# Altium schematic symbol library LEAKCAM.SCHLIB: 63 symbols
Pins are listed as number, name and electrical type; pins without a type are passive.

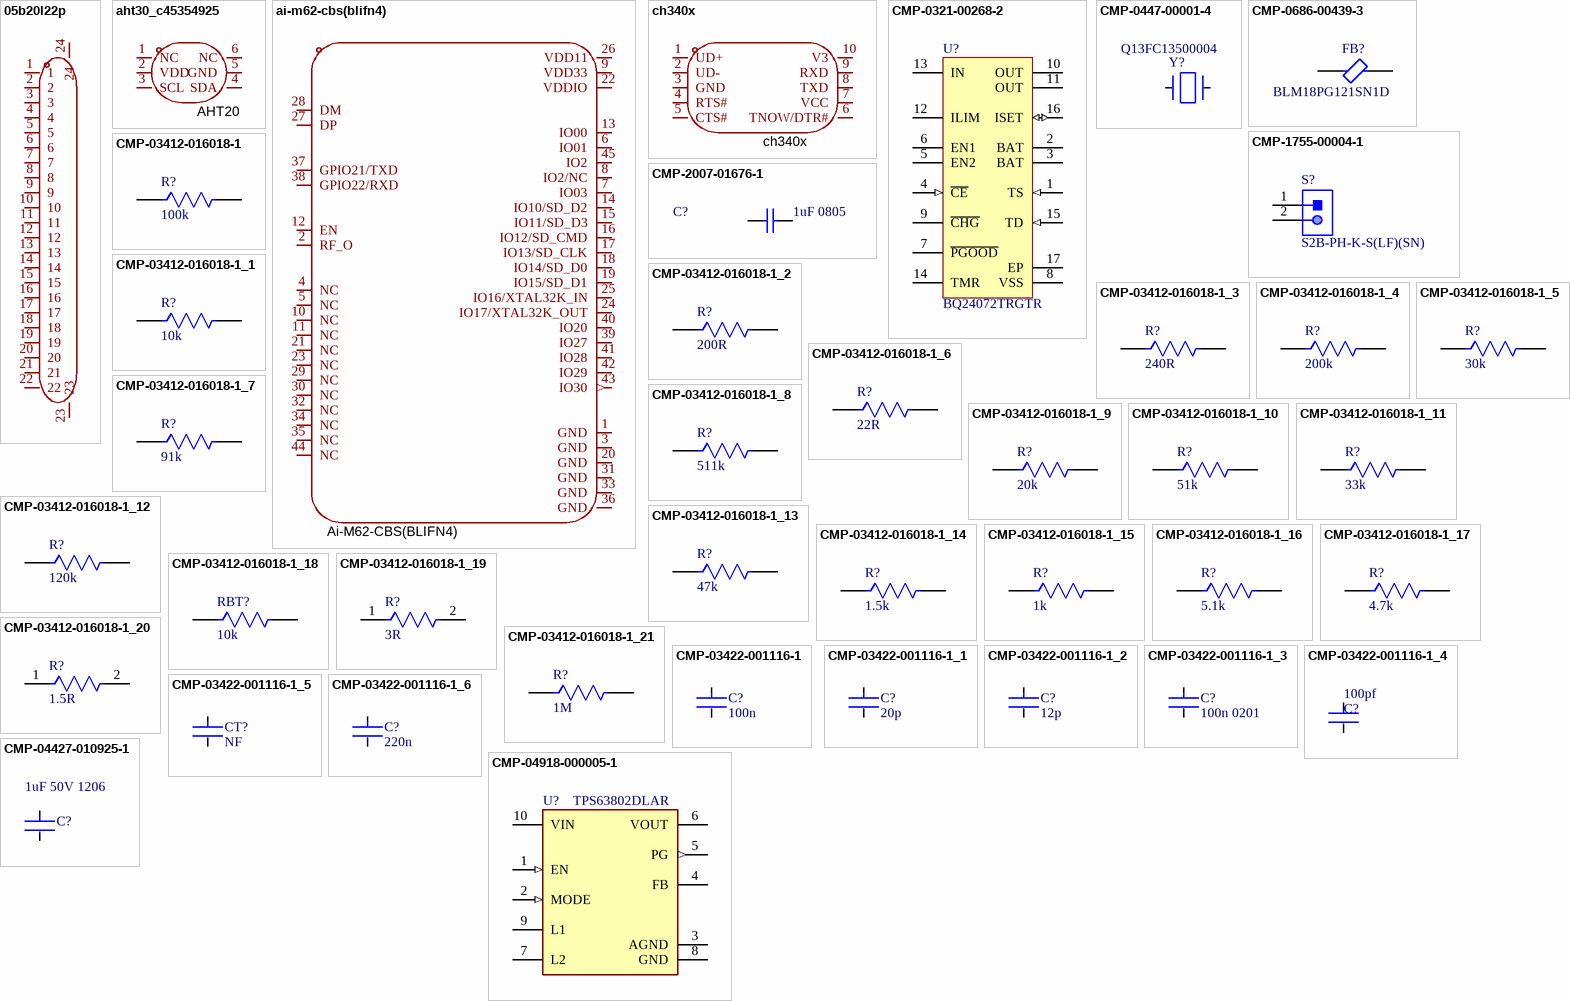
[diagram p0: symbols 05b20l22p to CMP-04918-000005-1]

## 05b20l22p
designator J?  (value not drawn)
C22459552; Manufacturer: HanElectricity(瀚源); AddInBom: yes; Locking Feature: Slide Lock; Number of Contacts: 22P; Pitch: 0.5mm; FFC, FCB Thickness: 0.3mm; Rated Voltage (Max): 50V; Current Rating (Max): 400mA; LCSC Part Name: 抽屉式 下接 P数:22P 间距:0.5mm; SupplierPart: C22459552; ManufacturerPart: 05B20L22P; Supplier Footprint: SMD,P=0.5mm,卧贴; JLCPCB Part Class: Extended Part; Datasheet: https://item.szlcsc.com/datasheet/05B20L22P/24136208.html; Supplier: LCSC; ConvertToPcb: yes; SymbolName: 05B20L22P; FootprintName: CONN-SMD_05B20L22P; Contact Type: Bottom Contact; Mounting Type: Surface Mount, Right Angle; Height Above Board: 2mm; Contact Material: Phosphor bronze; Contact Plating: Tin; Operating Temperature: -25℃~+85℃
footprint FLEX_CON_22P
pins: 1, 2, 3, 4, 5, 6, 7, 8, 9, 10, 11, 12, 13, 14, 15, 16, 17, 18, 19, 20, 21, 22, 23, 24

## aht30_c45354925
designator U?, comment AHT20
C2757850; Manufacturer: 广州奥松; ManufacturerPart: AHT30; Symbol: AHT30_C45354925; AddInBom: yes; ModelId: 157746d41b2d4f19849b880ea67ac3ea; ModelName: MIC-SMD_6P-L3.0-W3.0-P1.00-TL; ModelTransform: 118.11,118.11,0,0,0,0,0.006,-0.001,0; Humidity: 0%RH~100%RH; Interface: I2C; Voltage - Supply: 2.2V~5.5V; Current - Supply: 570uA; Humidity Tolerance: ±3%RH; Temperature Tolerance: ±0.5℃; LCSC Part Name: 温湿度传感器; SupplierPart: C45354925; Supplier Footprint: SMD-6P,3x3mm; JLCPCB Part Class: Extended Part; Datasheet: https://item.szlcsc.com/datasheet/AHT30/47444209.html; Supplier: LCSC; ConvertToPcb: yes; FootprintName: MIC-SMD_6P-L3.0-W3.0-P1.00-TL; Temperature Range: -40℃~+120℃; Resolution: -; Features: Factory calibration
footprint AHT30
pins: 1 NC, 2 VDD, 3 SCL, 4 SDA, 5 GND, 6 NC

## ai-m62-cbs(blifn4)
designator U?
C41368035; Manufacturer: Ai-Thinker(安信可); Utilized IC / Part: BL616; AddInBom: yes; ModelId: 220c4423d0fa4477abd1b31893269491; ModelName: WIRELM-SMD_AI-M62-CBS; ModelTransform: 472.44,472.44,0,0,0,0,0.001,0.005,0; Interface Type: I2C；GPIO；UART；USB2.0；SPI；PWM；SDIO；I2S; Output Power: 22dBm; Voltage - Supply: 2.97V~3.6V; Receive  Current: 59mA; Send  Current: 394mA; Sensitivity: -98dBm; LCSC Part Name: Wi-Fi6+BLE5.3模组; SupplierPart: C41368035; ManufacturerPart: Ai-M62-CBS(BLIFN4); Supplier Footprint: SMD,12x12mm; JLCPCB Part Class: Extended Part; Datasheet: https://item.szlcsc.com/datasheet/Ai-M62-CBS(BLIFN4)/43122706.html; Supplier: LCSC; ConvertToPcb: yes; SymbolName: AI-M62-CBS(BLIFN4); FootprintName: WIRELM-SMD_AI-M62-CBS; Operating Temperature: -40℃~+85℃
footprint AI-M62-CBS
pins: 1 GND, 2 RF_O, 3 GND, 4 NC, 5 NC, 6 IO01, 7 IO03, 8 IO2/NC, 9 VDD33, 10 NC, 11 NC, 12 EN, 13 IO00, 14 IO10/SD_D2, 15 IO11/SD_D3, 16 IO12/SD_CMD, 17 IO13/SD_CLK, 18 IO14/SD_D0, 19 IO15/SD_D1, 20 GND, 21 NC, 22 VDDIO, 23 NC, 24 IO17/XTAL32K_OUT, 25 IO16/XTAL32K_IN, 26 VDD11, 27 DP, 28 DM, 29 NC, 30 NC, 31 GND, 32 NC, 33 GND, 34 NC, 35 NC, 36 GND, 37 GPIO21/TXD, 38 GPIO22/RXD, 39 IO27, 40 IO20, 41 IO28, 42 IO29, 43 IO30 (out), 44 NC, 45 IO2

## ch340x
designator U?
C3035748; Manufacturer: WCH(南京沁恒); AddInBom: yes; ModelId: 875cf331c88d40d1aea94374997f39b1; ModelName: MSOP-10_L3.0-W3.0-H1.1-LS5.0-P0.50; ModelTransform: 118.11,196.85,0,0,0,0,0,0,0; Applications Function: USB to serial；USB to Parallel; USB Protocol: USB 2.0; Voltage - Supply: 3.3V；5V; Data Rate: 2Mbps; Symbol: CH340X; Supplier: LCSC; Supplier Part: C3035748; Manufacturer Part: CH340X; JLCPCB Part Class: Extended Part; LCSC Part Name: CH340X; Supplier Footprint: MSOP-10; Datasheet: https://item.szlcsc.com/datasheet/CH340X/3584030.html; ConvertToPcb: yes; FootprintName: MSOP-10_L3.0-W3.0-P0.50-LS5.0-BL; Number of Channels: -; Operating Temperature: -20℃~+70℃; Current - Supply: -; Quiescent Supply Current: -
footprint ch340x
pins: 1 UD+, 2 UD-, 3 GND, 4 RTS#, 5 CTS#, 6 TNOW/DTR#, 7 VCC, 8 TXD, 9 RXD, 10 V3

## CMP-0321-00268-2
designator U?, comment BQ24072TRGTR
C129319; Manufacturer: Texas Instruments; Eco-Plan: Green (RoHS & no Sb/Br); Over Voltage Protection: N; Li-Ion: Y; SubFamily: Battery Charge Management; Vin(Min)(V): 4.3; Code_JEDEC: MO-220; ComponentLink1Description: Datasheet; Mounting Technology: Surface Mount; PartNumber: BQ24072TRGTR; Lead Acid: N; Li-Polymer: Y; NiMH: N; DatasheetVersion: SLUS937A; NiCd: N; ComponentLink1URL: http://www.ti.com/general/docs/lit/getliterature.tsp?genericPartNumber=BQ24072T&fileType=pdf; PackageDescription: 16-Pin Plastic Quad Flat No-Lead, 3 x 3 mm Body, 0.5 mm Pitch, 1.7 x 1.7 mm Exposed Pad; PackageReference: RGT0016C; PackageVersion: revH, Oct-2011
footprint RGT0016C_V (QFN, 16-Leads, Body 3x3mm, Pitch 0.5mm, Thermal Pad 1.65x1.65mm)
pins: 1 TS (in) "External NTC Thermistor Input. Connect the TS input to the center tap of a resistor divider from VIN to GND with the NTC in parallel with the bottom resistor to monitor the NTC in the battery pack. For applications that do (See Datasheet)", 2 BAT (power) "Charger Power Stage Output and Battery Voltage Sense Input. Connect BAT to the positive terminal of the battery. Bypass BAT to VSS with a 4.7 uF to 47 uF ceramic capacitor.", 3 BAT (power) "Charger Power Stage Output and Battery Voltage Sense Input. Connect BAT to the positive terminal of the battery. Bypass BAT to VSS with a 4.7 uF to 47 uF ceramic capacitor.", 4 ~{CE} (in) "Charge Enable Active-Low Input. Connect C\E\ to a high logic level to place the battery charger in standby mode. In standby mode, OUT is active and battery supplement mode is available. Connect /C\E\ to a low logic level to (See Datasheet)", 5 EN2 "Input Current Limit Configuration Inputs. Use EN1 and En2 to control the maximum input current and enable USB compliance. See Table 1 for the description of the operation states.EN1 and EN2 are internally pulled down with (See Datasheet)", 6 EN1 "Input Current Limit Configuration Inputs. Use EN1 and En2 to control the maximum input current and enable USB compliance. See Table 1 for the description of the operation states.EN1 and EN2 are internally pulled down with (See Datasheet)", 7 ~{PGOOD} (hiz) "Open-Drain Power Good Status Indication Output. P\G\O\O\D\ pulls to VSS when a valid input source is detected. P\G\O\O\D\ is high-impedance when the input power is not within specified limits. Connect P\G\O\O\D\ to the (See Datasheet)", 8 VSS (power) "Ground. Connect to the thermal pad and to the ground rail of the circuit.", 9 ~{CHG} (hiz) "Open-Drain Charging Status Indication Output. CHG pulls to VSS when the battery is charging. C\H\G\ is high-impedance when charging is complete or when the charger is disabled. C\H\G\ flashes to indicate a timer fault. (See Datasheet)", 10 OUT (power) "System Supply Output. OUT provides a regulated output when the input is below the OVP threshold and above the regulation voltage. When the input is out of the operation range,OUT is connected to VBAT except when SYSOFF is (See Datasheet)", 11 OUT (power) "System Supply Output. OUT provides a regulated output when the input is below the OVP threshold and above the regulation voltage. When the input is out of the operation range,OUT is connected to VBAT except when SYSOFF is (See Datasheet)", 12 ILIM "Adjustable Current Limit Programming Input. Connect a 1.07 kohm to 7.5kohm resistor from ILIM to VSS to program the maximum input current (EN2=1, EN1=0). The input current includes the system load and the battery charge (See Datasheet)", 13 IN (power) "Input Power Connection. Connect IN to the external DC supply (AC adapter or USB port).The input operating range is 4.35V to 6.6V. The input accepts voltages up to 26V without damage, but operation is suspended. Bypass IN to (See Datasheet)", 14 TMR "Timer Programming Input. TMR controls the pre-charge and fast-charge safety timers.Connect TMR to VSS to disable all safety timers. Connect a 18 kohm to 72 kohm resistor between TMR and VSS to program the timers to a desired (See Datasheet)", 15 TD (in) "Termination Disable Input. Connect TD high to disable charger termination. Connect TD to VSS to enable charger termination. TD is checked during startup only and cannot be changed during operation. See the TD section in this (See Datasheet)", 16 ISET (io) "Fast Charge Current Programming Input. Connect a 590 ohm to 3 kohm resistor from ISET to VSS to program the fast charge current level. Charging is disabled if ISET is left unconnected. While charging, the voltage ISET (See Datasheet)", 17 EP (power) "There is an internal electrical connection between the exposed thermal pad and the VSS pin of the device. The thermal pad must be connected to the same potential as the VSS pin on the printed circuit board. Do not use the (See Datasheet)"

## CMP-0447-00001-4
designator Y?, comment Q13FC13500004
C32346; Frequency: 32.768kHz; ESR (Equivalent Series Resistance): 70kR; Frequency Tolerance: 20ppm; Load Capacitance: 12.5pF; Operating Frequency: 32.768 kHz; Radiation Hardening: No; Length: 3.2mm; Max Operating Temperature: 85°C; Number of Pins: 2; Series: ABS07; Min Operating Temperature: -40°C; Packaging: Tape and Reel; Height: 0.9mm; Width: 1.5mm; Depth: 1.5mm; RoHS Compliant: Yes; Tolerance: 20ppm; Termination: SMD/SMT; Lead Free: Lead Free; Series Resistance: 70kR; REACH SVHC: No SVHC; Case/Package: CSMD; Package Quantity: 3000
footprint FP-ABS07-MFG
pins: 1, 2

## CMP-0686-00439-3
designator FB?, comment BLM18PG121SN1D
C14709; DC Resistance (DCR): 180mR; Number of Lines: 1; Current Rating: 500mA; Material: Steel; Core Material: Ferrite; Impedance: 120R; Tolerance: 25%; Test Frequency: 100MHz; Shielding: Unshielded; Case/Package: 0603; Max Operating Temperature: 125°C; Min Operating Temperature: -55°C; Series: BLM18A; Case Code (Metric): 1608; DC Resistance-Max: 180mR; Package Quantity: 1; Radiation Hardening: No; Length: 1.6mm; Lead Free: Lead Free; Max DC Current: 500mA; Termination: SMD/SMT; Number of Pins: 2; Military Standard: Not; REACH SVHC: No SVHC; Number of Circuits: 1; Max Current Rating: 500mA; Depth: 0.8mm; Frequency: 100MHz; Width: 0.8mm; Case Code (Imperial): 0603; DC Current: 500mA; Height: 0.8mm; RoHS Compliant: Yes; Packaging: Tape and Reel
footprint FP-BLM18-0_15-t0_8-IPC_B
pins: 1, 2

## CMP-1755-00004-1
designator S?, comment S2B-PH-K-S(LF)(SN)
C157932; Case\Package: Radial; Tolerance: 20%; Capacitance: 10 uF; Voltage Rating (DC): 50 V; Packaging: Bulk; ComponentLink1URL: http://www.jst-mfg.com/product/pdf/eng/ePH.pdf; Radiation Hardening: No; Height: 11 mm; Package Quantity: 200; PackageDescription: Male Header, Pitch 2 mm, 1 x 2 Position, Height 4.8 mm, Tail Length 3.4 mm; PackageReference: S2B-PH-K-S; Diameter: 5 mm; Pins: 2; Mount: Through Hole; Max Operating Temperature: 85 degC; Min Operating Temperature: -40 degC; ComponentLink1Description: Datasheet; DatasheetVersion: Dec-12; Length: 11 mm; Lead Pitch: 2 mm; REACH SVHC: No SVHC; Voltage Rating: 50 V; RoHSCompliant: true
footprint JST-S2B-PH-K-S_V (THD, 2-Leads, Body 7.6x5.9mm, Pitch 2mm)
pins: 1, 2

## CMP-2007-01676-1
designator C?, comment 1uF 0805
C28323; Part Number: VJ0805Y105KXQRW1BC; Manufacturer: Vitramon; Value: 1uF; Capacitance: 1uF
footprint CAPC2013X145X50NL20T20 (Chip Capacitor, 2-Leads, Body 2.00x1.25mm, IPC Medium Density)
pins: 1, 2
1 alternate drawing of the same symbol

## CMP-03412-016018-1
designator R?, comment 100k
C25741; Tolerance: 1%; Temperature Coefficient: 100ppm/°C; Resistance: 100kOhm; Max Power Dissipation: 63mW; Value: 100kOhm; Ratings: AEC-Q200; Resistor Type: Thick Film; Number of Terminations: 2; RoHS Compliant: Yes; Min Operating Temperature: -55°C; Case/Package: 0402; Series: AC; Length: 0.039inch; Width: 0.02inch; Features: Moisture Resistant; Height: 0.015inch; Packaging: Tape and Reel; Max Operating Temperature: 155°C
footprint RES_0402
pins: 1, 2

## CMP-03412-016018-1_1
designator R?, comment 10k
C25744; Tolerance: 1%; Temperature Coefficient: 100ppm/°C; Resistance: 10kOhm; Max Power Dissipation: 63mW; Value: 10kOhm; Ratings: AEC-Q200; Resistor Type: Thick Film; Number of Terminations: 2; RoHS Compliant: Yes; Min Operating Temperature: -55°C; Case/Package: 0402; Series: AC; Length: 0.039inch; Width: 0.02inch; Features: Moisture Resistant; Height: 0.015inch; Packaging: Tape and Reel; Max Operating Temperature: 155°C
footprint RES_0402
pins: 1, 2

## CMP-03412-016018-1_2
designator R?, comment 200R
C25087; Tolerance: 1%; Temperature Coefficient: 100ppm/°C; Resistance: 200Ohm; Max Power Dissipation: 63mW; Value: 200Ohm; Ratings: AEC-Q200; Resistor Type: Thick Film; Number of Terminations: 2; RoHS Compliant: Yes; Min Operating Temperature: -55°C; Case/Package: 0402; Series: AC; Length: 0.039inch; Width: 0.02inch; Features: Moisture Resistant; Height: 0.015inch; Packaging: Tape and Reel; Max Operating Temperature: 155°C
footprint RES_0402
pins: 1, 2

## CMP-03412-016018-1_3
designator R?, comment 240R
C324768; Tolerance: 1%; Temperature Coefficient: 100ppm/°C; Resistance: 240Ohm; Max Power Dissipation: 63mW; Value: 240Ohm; Ratings: AEC-Q200; Resistor Type: Thick Film; Number of Terminations: 2; RoHS Compliant: Yes; Min Operating Temperature: -55°C; Case/Package: 0402; Series: AC; Length: 0.039inch; Width: 0.02inch; Features: Moisture Resistant; Height: 0.015inch; Packaging: Tape and Reel; Max Operating Temperature: 155°C
footprint RES_0402
pins: 1, 2

## CMP-03412-016018-1_4
designator R?, comment 200k
C25764; Tolerance: 1%; Temperature Coefficient: 100ppm/°C; Resistance: 200kOhm; Max Power Dissipation: 63mW; Value: 200kOhm; Ratings: AEC-Q200; Resistor Type: Thick Film; Number of Terminations: 2; RoHS Compliant: Yes; Min Operating Temperature: -55°C; Case/Package: 0402; Series: AC; Length: 0.039inch; Width: 0.02inch; Features: Moisture Resistant; Height: 0.015inch; Packaging: Tape and Reel; Max Operating Temperature: 155°C
footprint RES_0402
pins: 1, 2

## CMP-03412-016018-1_5
designator R?, comment 30k
C49653548; Tolerance: 1%; Temperature Coefficient: 100ppm/°C; Resistance: 30kOhm; Max Power Dissipation: 63mW; Value: 30kOhm; Ratings: AEC-Q200; Resistor Type: Thick Film; Number of Terminations: 2; RoHS Compliant: Yes; Min Operating Temperature: -55°C; Case/Package: 0402; Series: AC; Length: 0.039inch; Width: 0.02inch; Features: Moisture Resistant; Height: 0.015inch; Packaging: Tape and Reel; Max Operating Temperature: 155°C
footprint RES_0402
pins: 1, 2

## CMP-03412-016018-1_6
designator R?, comment 22R
C25092; Tolerance: 1%; Temperature Coefficient: 100ppm/°C; Resistance: 22Ohm; Max Power Dissipation: 63mW; Value: 22Ohm; Ratings: AEC-Q200; Resistor Type: Thick Film; Number of Terminations: 2; RoHS Compliant: Yes; Min Operating Temperature: -55°C; Case/Package: 0402; Series: AC; Length: 0.039inch; Width: 0.02inch; Features: Moisture Resistant; Height: 0.015inch; Packaging: Tape and Reel; Max Operating Temperature: 155°C
footprint RES_0402
pins: 1, 2

## CMP-03412-016018-1_7
designator R?, comment 91k
C54920709; Tolerance: 1%; Temperature Coefficient: 100ppm/°C; Resistance: 91kOhm; Max Power Dissipation: 63mW; Value: 91kOhm; Ratings: AEC-Q200; Resistor Type: Thick Film; Number of Terminations: 2; RoHS Compliant: Yes; Min Operating Temperature: -55°C; Case/Package: 0402; Series: AC; Length: 0.039inch; Width: 0.02inch; Features: Moisture Resistant; Height: 0.015inch; Packaging: Tape and Reel; Max Operating Temperature: 155°C
footprint RES_0402
pins: 1, 2

## CMP-03412-016018-1_8
designator R?, comment 511k
C49655223; Tolerance: 1%; Temperature Coefficient: 100ppm/°C; Resistance: 511kOhm; Max Power Dissipation: 63mW; Value: 511kOhm; Ratings: AEC-Q200; Resistor Type: Thick Film; Number of Terminations: 2; RoHS Compliant: Yes; Min Operating Temperature: -55°C; Case/Package: 0402; Series: AC; Length: 0.039inch; Width: 0.02inch; Features: Moisture Resistant; Height: 0.015inch; Packaging: Tape and Reel; Max Operating Temperature: 155°C
footprint RES_0402
pins: 1, 2

## CMP-03412-016018-1_9
designator R?, comment 20k
C25765; Tolerance: 1%; Temperature Coefficient: 100ppm/°C; Resistance: 20kOhm; Max Power Dissipation: 63mW; Value: 20kOhm; Ratings: AEC-Q200; Resistor Type: Thick Film; Number of Terminations: 2; RoHS Compliant: Yes; Min Operating Temperature: -55°C; Case/Package: 0402; Series: AC; Length: 0.039inch; Width: 0.02inch; Features: Moisture Resistant; Height: 0.015inch; Packaging: Tape and Reel; Max Operating Temperature: 155°C
footprint RES_0402
pins: 1, 2

## CMP-03412-016018-1_10
designator R?, comment 51k
C25794; Tolerance: 1%; Temperature Coefficient: 100ppm/°C; Resistance: 51kOhm; Max Power Dissipation: 63mW; Value: 51kOhm; Ratings: AEC-Q200; Resistor Type: Thick Film; Number of Terminations: 2; RoHS Compliant: Yes; Min Operating Temperature: -55°C; Case/Package: 0402; Series: AC; Length: 0.039inch; Width: 0.02inch; Features: Moisture Resistant; Height: 0.015inch; Packaging: Tape and Reel; Max Operating Temperature: 155°C
footprint RES_0402
pins: 1, 2

## CMP-03412-016018-1_11
designator R?, comment 33k
C25779; Tolerance: 1%; Temperature Coefficient: 100ppm/°C; Resistance: 33kOhm; Max Power Dissipation: 63mW; Value: 33kOhm; Ratings: AEC-Q200; Resistor Type: Thick Film; Number of Terminations: 2; RoHS Compliant: Yes; Min Operating Temperature: -55°C; Case/Package: 0402; Series: AC; Length: 0.039inch; Width: 0.02inch; Features: Moisture Resistant; Height: 0.015inch; Packaging: Tape and Reel; Max Operating Temperature: 155°C
footprint RES_0402
pins: 1, 2

## CMP-03412-016018-1_12
designator R?, comment 120k
C25750; Tolerance: 1%; Temperature Coefficient: 100ppm/°C; Resistance: 120kOhm; Max Power Dissipation: 63mW; Value: 120kOhm; Ratings: AEC-Q200; Resistor Type: Thick Film; Number of Terminations: 2; RoHS Compliant: Yes; Min Operating Temperature: -55°C; Case/Package: 0402; Series: AC; Length: 0.039inch; Width: 0.02inch; Features: Moisture Resistant; Height: 0.015inch; Packaging: Tape and Reel; Max Operating Temperature: 155°C
footprint RES_0402
pins: 1, 2

## CMP-03412-016018-1_13
designator R?, comment 47k
C25792; Tolerance: 1%; Temperature Coefficient: 100ppm/°C; Resistance: 47kOhm; Max Power Dissipation: 63mW; Value: 47kOhm; Ratings: AEC-Q200; Resistor Type: Thick Film; Number of Terminations: 2; RoHS Compliant: Yes; Min Operating Temperature: -55°C; Case/Package: 0402; Series: AC; Length: 0.039inch; Width: 0.02inch; Features: Moisture Resistant; Height: 0.015inch; Packaging: Tape and Reel; Max Operating Temperature: 155°C
footprint RES_0402
pins: 1, 2

## CMP-03412-016018-1_14
designator R?, comment 1.5k
C25867; Tolerance: 1%; Temperature Coefficient: 100ppm/°C; Resistance: 1.5kOhm; Max Power Dissipation: 63mW; Value: 1.5kOhm; Ratings: AEC-Q200; Resistor Type: Thick Film; Number of Terminations: 2; RoHS Compliant: Yes; Min Operating Temperature: -55°C; Case/Package: 0402; Series: AC; Length: 0.039inch; Width: 0.02inch; Features: Moisture Resistant; Height: 0.015inch; Packaging: Tape and Reel; Max Operating Temperature: 155°C
footprint RES_0402
pins: 1, 2

## CMP-03412-016018-1_15
designator R?, comment 1k
C11702; Tolerance: 1%; Temperature Coefficient: 100ppm/°C; Resistance: 1kOhm; Max Power Dissipation: 63mW; Value: 1kOhm; Ratings: AEC-Q200; Resistor Type: Thick Film; Number of Terminations: 2; RoHS Compliant: Yes; Min Operating Temperature: -55°C; Case/Package: 0402; Series: AC; Length: 0.039inch; Width: 0.02inch; Features: Moisture Resistant; Height: 0.015inch; Packaging: Tape and Reel; Max Operating Temperature: 155°C
footprint RES_0402
pins: 1, 2

## CMP-03412-016018-1_16
designator R?, comment 5.1k
C25905; Tolerance: 1%; Temperature Coefficient: 100ppm/°C; Resistance: 5.1kOhm; Max Power Dissipation: 63mW; Value: 5.1kOhm; Ratings: AEC-Q200; Resistor Type: Thick Film; Number of Terminations: 2; RoHS Compliant: Yes; Min Operating Temperature: -55°C; Case/Package: 0402; Series: AC; Length: 0.039inch; Width: 0.02inch; Features: Moisture Resistant; Height: 0.015inch; Packaging: Tape and Reel; Max Operating Temperature: 155°C
footprint RES_0402
pins: 1, 2

## CMP-03412-016018-1_17
designator R?, comment 4.7k
C25900; Tolerance: 1%; Temperature Coefficient: 100ppm/°C; Resistance: 4.7kOhm; Max Power Dissipation: 63mW; Value: 4.7kOhm; Ratings: AEC-Q200; Resistor Type: Thick Film; Number of Terminations: 2; RoHS Compliant: Yes; Min Operating Temperature: -55°C; Case/Package: 0402; Series: AC; Length: 0.039inch; Width: 0.02inch; Features: Moisture Resistant; Height: 0.015inch; Packaging: Tape and Reel; Max Operating Temperature: 155°C
footprint RES_0402
pins: 1, 2

## CMP-03412-016018-1_18
designator RBT?, comment 10k
C25744; Tolerance: 1%; Temperature Coefficient: 100ppm/°C; Resistance: 768kR; Max Power Dissipation: 63mW; Ratings: AEC-Q200; Resistor Type: Thick Film; Number of Terminations: 2; RoHS Compliant: Yes; Min Operating Temperature: -55°C; Case/Package: 0402; Series: AC; Length: 0.039inch; Width: 0.02inch; Features: Moisture Resistant; Height: 0.015inch; Packaging: Tape and Reel; Max Operating Temperature: 155°C
footprint RES_0402
pins: 1, 2

## CMP-03412-016018-1_19
designator R?, comment 3R
C23157; Manufacturer Part Number: SR0603FR-7T10RL; Manufacturer: Yageo; Voltage Rating: 75V; Value: 3Ohm; Tolerance: 0.01; Automotive Grade: Grade 0; Power Rating: 0.25W; Footprint Url: http://www.yageo.com/exep/pages/download/literatures/PYu-R_Mount_10.pdf; Digikey Description: RES SMD 0603 1/10W 1% 3 OHM; Device Class L2: Resistors; Octopart: https://octopart.com/sr0603fr-7t10rl-yageo-91478074; Temperature Range Low: -55°C; Device Class L3: Chip SMD Resistors; ComponentLink2Description: Datasheet; Height: 0.55mm; Automotive: Yes; Lead Free: Yes; Category: Res; Resistance: 3Ohm; RoHS: TRUE; Series: SR; Temperature: -55°C to +155°C; Device Class L1: Passive Components; Temperature Range High: +155°C; Composition: Thick Film; Package: SR0603; ComponentLink2URL: http://www.yageo.com/documents/recent/PYu-SR_D_F%20tol_RoHS_L_3.pdf; Ipc Land Pattern Name: RESC16080X45
footprint FP-SR0603-MFG
pins: 1, 2

## CMP-03412-016018-1_20
designator R?, comment 1.5R
C22769; Manufacturer Part Number: SR0603FR-7T10RL; Manufacturer: Yageo; Voltage Rating: 75V; Value: 1.5Ohm; Tolerance: 0.01; Automotive Grade: Grade 0; Power Rating: 0.25W; Footprint Url: http://www.yageo.com/exep/pages/download/literatures/PYu-R_Mount_10.pdf; Digikey Description: RES SMD 0603 1/10W 1% 1.5 OHM; Device Class L2: Resistors; Octopart: https://octopart.com/sr0603fr-7t10rl-yageo-91478074; Temperature Range Low: -55°C; Device Class L3: Chip SMD Resistors; ComponentLink2Description: Datasheet; Height: 0.55mm; Automotive: Yes; Lead Free: Yes; Category: Res; Resistance: 1.5Ohm; RoHS: TRUE; Series: SR; Temperature: -55°C to +155°C; Device Class L1: Passive Components; Temperature Range High: +155°C; Composition: Thick Film; Package: SR0603; ComponentLink2URL: http://www.yageo.com/documents/recent/PYu-SR_D_F%20tol_RoHS_L_3.pdf; Ipc Land Pattern Name: RESC16080X45
footprint FP-SR0603-MFG
pins: 1, 2

## CMP-03412-016018-1_21
designator R?, comment 1M
C26083; Tolerance: 1%; Temperature Coefficient: 100ppm/°C; Resistance: 1MOhm; Max Power Dissipation: 63mW; Value: 1MOhm; Ratings: AEC-Q200; Resistor Type: Thick Film; Number of Terminations: 2; RoHS Compliant: Yes; Min Operating Temperature: -55°C; Case/Package: 0402; Series: AC; Length: 0.039inch; Width: 0.02inch; Features: Moisture Resistant; Height: 0.015inch; Packaging: Tape and Reel; Max Operating Temperature: 155°C
footprint RES_0402
pins: 1, 2

## CMP-03422-001116-1
designator C?, comment 100n
C307331; Tolerance: 10%; Voltage Rating: 50V; Capacitance: 100nF; Value: 100nF; Max Operating Temperature: 125°C; Case Code (Metric): 1005; RoHS Compliant: Yes; Series: -; Case Code (Imperial): 0402; Min Operating Temperature: -55°C; Mount: Surface Mount; Case/Package: 0402; Packaging: Cut Tape
footprint CAP_0402
pins: 1, 2

## CMP-03422-001116-1_1
designator C?, comment 20p
C1554; Tolerance: 10%; Voltage Rating: 50V; Capacitance: 20pF; Value: 20pF; Max Operating Temperature: 125°C; Case Code (Metric): 1005; RoHS Compliant: Yes; Series: -; Case Code (Imperial): 0402; Min Operating Temperature: -55°C; Mount: Surface Mount; Case/Package: 0402; Packaging: Cut Tape
footprint CAP_0402
pins: 1, 2

## CMP-03422-001116-1_2
designator C?, comment 12p
C1547; Tolerance: 10%; Voltage Rating: 50V; Capacitance: 12pF; Value: 12pF; Max Operating Temperature: 125°C; Case Code (Metric): 1005; RoHS Compliant: Yes; Series: -; Case Code (Imperial): 0402; Min Operating Temperature: -55°C; Mount: Surface Mount; Case/Package: 0402; Packaging: Cut Tape
footprint CAP_0402
pins: 1, 2

## CMP-03422-001116-1_3
designator C?, comment 100n 0201
C2903663; Manufacturer: Yageo; Manufacturer Part Number: CC0201KRX5R7BB223; Material: Ceramic; Tolerance: 0.1; Temperature Coefficient: 15%; Temperature Characteristic: X5R; Value: 100nF; Voltage Rating: 16 V; Automotive: No; Device Class L1: Passive Components; Lead Free: Yes; ComponentLink2URL: http://www.yageo.com/documents/recent/UPY-GPHC_X5R_4V-to-50V_25.pdf; RoHS: TRUE; Height: 0.33mm; Capacitance: 100nF; Package: CC0201-BA; Temperature Range Low: -55°C; Footprint Url: http://www.yageo.com/exep/pages/download/literatures/UPY-C_GEN_24.pdf; Temperature Range High: +85°C; ComponentLink2Description: Datasheet; Device Class L3: Ceramic Capacitors; Ipc Land Pattern Name: CAPC6030X30; Temperature: -55°C to +85°C; Category: Cap; Device Class L2: Capacitors; Octopart: https://octopart.com/cc0201krx5r7bb223-yageo-90326712
footprint CAP_0201
pins: 1, 2

## CMP-03422-001116-1_4
designator C?, comment 100pf
C1546; Tolerance: 10%; Voltage Rating: 50V; Max Operating Temperature: 125°C; Case Code (Metric): 1005; RoHS Compliant: Yes; Series: -; Case Code (Imperial): 0402; Min Operating Temperature: -55°C; Mount: Surface Mount; Capacitance: 100pF; Case/Package: 0402; Packaging: Cut Tape; Value: 100pF
footprint CAP_0402
pins: 1, 2

## CMP-03422-001116-1_5
designator CT?, comment NF
Tolerance: 10%; Voltage Rating: 50V; Max Operating Temperature: 125°C; Case Code (Metric): 1005; RoHS Compliant: Yes; Series: -; Case Code (Imperial): 0402; Min Operating Temperature: -55°C; Mount: Surface Mount; Case/Package: 0402; Packaging: Cut Tape
footprint CAP_0402
pins: 1, 2

## CMP-03422-001116-1_6
designator C?, comment 220n
C16772; Tolerance: 10%; Voltage Rating: 50V; Capacitance: 220nF; Value: 220nF; Max Operating Temperature: 125°C; Case Code (Metric): 1005; RoHS Compliant: Yes; Series: -; Case Code (Imperial): 0402; Min Operating Temperature: -55°C; Mount: Surface Mount; Case/Package: 0402; Packaging: Cut Tape
footprint CAP_0402
pins: 1, 2

## CMP-04427-010925-1
designator C?, comment 1uF 50V 1206
C1848; Tolerance: 5%; Dielectric: X7R; Mount: Surface Mount; Min Operating Temperature: -55°C; Voltage Rating (DC): 50V; Ratings: AEC-Q200; RoHS Compliant: Yes; Max Operating Temperature: 125°C; Width: 0.063inch; Voltage Rating: 50V; Thickness: 0.037inch; Package Quantity: 2000; Capacitance: 1uF; Packaging: Tape and Reel; Length: 0.126inch; Case/Package: 1206; Value: 1uF
footprint FP-1206-L_3_2_0_2-W_1_6_0-IPC_B
pins: 1, 2

## CMP-04918-000005-1
designator U?, comment TPS63802DLAR
C2845237; Manufacturer: Texas Instruments; Nominal Supply Current: 11uA; Max Junction Temp: +125°C; Max Supply Voltage: 5.5V; Switching Topology: Buck-Boost; Min Supply Voltage: 1.3V; Output Current: 2A; Output Voltage: 1.8-5.2V; Number Of Outputs: 1; Switching Frequency: 1.4/1.6/2.1MHz; Standoff Height: 0mm; Max Duty Cycle: 100%; Output Type: AdjustableProgrammable; Manufacturer Part Number: TPS63802DLAR; ComponentLink2URL: https://www.ti.com/lit/ds/symlink/tps63802.pdf; Digikey Description: IC POWER MANAGEMENT; Octopart: https://octopart.com/tps63802dlar-texas+instruments-97359678; Height: 1mm; Temperature: -40°C to +125°C; Device Class L3: Voltage Regulators - Switching; Lead Free: Yes; Category: IC; Mouser Description: 2-A, high-efficient, 11-µA quiescent current buck-boost converter in QFN/DFN package 10-VSON-HR -40 to 125; ComponentLink2Description: Datasheet; Temperature Range Low: -40°C; Temperature Range High: +125°C; Automotive: No; Device Class L2: Power Management ICs; RoHS: TRUE; Device Class L1: Integrated Circuits (ICs); Package: DLA0010A
footprint FP-DLA0010A-MFG
pins: 1 EN (in), 2 MODE (in), 3 AGND (power), 4 FB, 5 PG (out), 6 VOUT (power), 7 L2, 8 GND (power), 9 L1, 10 VIN (power)

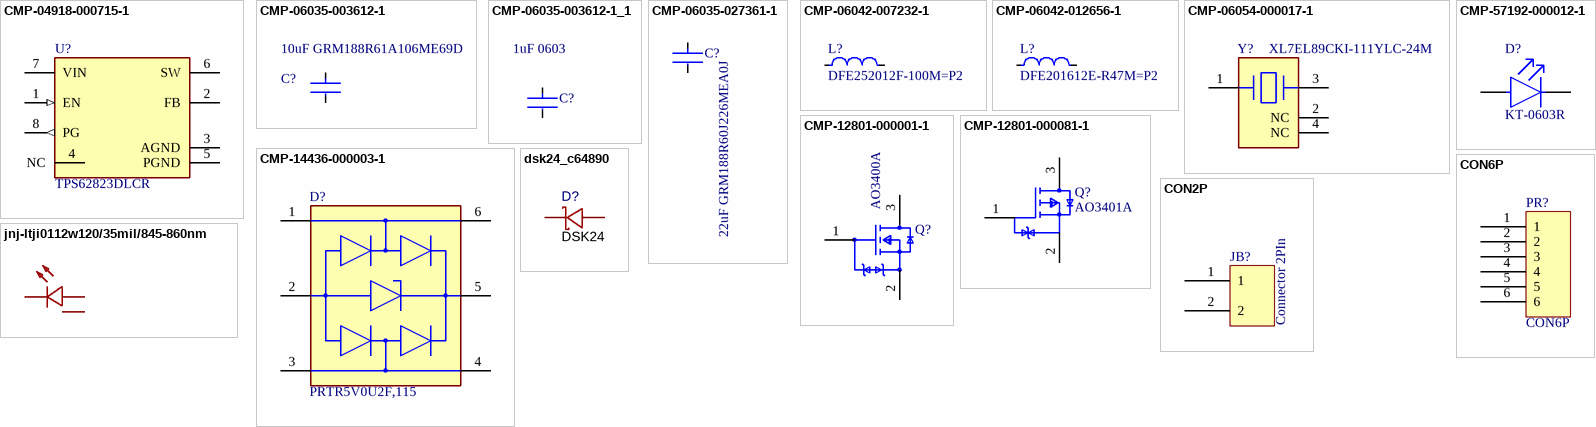
[diagram p1: symbols CMP-04918-000715-1 to jnj-ltji0112w120/35mil/845-860nm]

## CMP-04918-000715-1
designator U?, comment TPS62823DLCR
C2693497; Output Configuration: Positive; Max Input Voltage: 5.5V; Number of Outputs: 1; Min Output Voltage: 600mV; Output Type: Adjustable; Max Output Voltage: 4V; Switching Frequency: 2.2MHz; Min Input Voltage: 2.4V; Synchronous Rectifier: Yes; Output Current: 3A; Min Operating Temperature: -40°C; Series: -; RoHS Compliant: Yes; Mount: Surface Mount; Number of Pins: 8; Packaging: Cut Tape; Max Operating Temperature: 125°C
footprint FP-DLC0008A-MFG
pins: 1 EN (in), 2 FB, 3 AGND (power), 4 NC, 5 PGND (power), 6 SW (power), 7 VIN (power), 8 PG (out)

## CMP-06035-003612-1
designator C?, comment 10uF GRM188R61A106ME69D
C19702; Tolerance: 20%; Dielectric: X5R; Voltage Rating: 10V; Material: Ceramic; Package Quantity: 4000; Width: 0.8mm; Case/Package: 0603; Thickness: 0.035inch; Capacitance: 10uF; Voltage Rating (DC): 10V; Termination: SMD/SMT; Length: 1.6mm; Lead Free: Lead Free; Mount: Surface Mount; Height: 0.8mm; Depth: 0.8mm; Packaging: Tape and Reel; Weight: 0.000222oz; Min Operating Temperature: -55°C; Case Code (Metric): 1608; Max Operating Temperature: 85°C; Case Code (Imperial): 0603; Value: 10uF
footprint FP-GRM188-0_15-MFG
pins: 1, 2

## CMP-06035-003612-1_1
designator C?, comment 1uF 0603
C15849; Tolerance: 20%; Dielectric: X5R; Voltage Rating: 10V; Material: Ceramic; Package Quantity: 4000; Width: 0.8mm; Case/Package: 0603; Thickness: 0.035inch; Capacitance: 1uF; Voltage Rating (DC): 10V; Termination: SMD/SMT; Length: 1.6mm; Lead Free: Lead Free; Mount: Surface Mount; Height: 0.8mm; Depth: 0.8mm; Packaging: Tape and Reel; Weight: 0.000222oz; Min Operating Temperature: -55°C; Case Code (Metric): 1608; Max Operating Temperature: 85°C; Case Code (Imperial): 0603; Value: 1uF
footprint FP-GRM188-0_15-MFG
pins: 1, 2

## CMP-06035-027361-1
designator C?, comment 22uF GRM188R60J226MEA0J
C59461; Dielectric: X5R; Voltage Rating: 6.3V; Tolerance: 20%; Capacitance: 22uF; Case Code (Metric): 1608; Thickness: 0.039inch; Termination: SMD/SMT; Voltage Rating (DC): 6.3V; Width: 0.031inch; Weight: 0.000222oz; Case/Package: 0603; Lead Free: Lead Free; Package Quantity: 10000; Case Code (Imperial): 0603; Length: 0.063inch; Packaging: Tape and Reel; Max Operating Temperature: 85°C; Min Operating Temperature: -55°C; Mount: Surface Mount; Value: 22uF
footprint FP-GRM188-0_2-IPC_C
pins: 1, 2

## CMP-06042-007232-1
designator L?, comment DFE252012F-100M=P2
C703141; DC Resistance (DCR): 480mR; Current Rating: 950mA; Inductance: 10uH; Tolerance: 20%; Test Frequency: 1MHz; Shielding: Shielded; Saturation Current: 1.6A; Core Material: Ferrite; Value: 10uH; Case/Package: 1008; Length: 0.098inch; Case Code (Metric): 2520; Width: 0.079inch; Case Code (Imperial): 1008; Height - Seated (Max): 0.047inch; Packaging: Tape and Reel; Mount: Surface Mount; Min Operating Temperature: -40°C; Max Operating Temperature: 125°C
footprint FP-DFE252012C-IPC_B
pins: 1, 2

## CMP-06042-012656-1
designator L?, comment DFE201612E-R47M=P2
C668312; Value: 0.47uH; Inductance: 0.47uH
footprint FP-DFE201612C-IPC_C
pins: 1, 2

## CMP-06054-000017-1
designator Y?, comment XL7EL89CKI-111YLC-24M
C2965580; ESR (Equivalent Series Resistance): 150R; Operating Frequency: 24 MHz; Tolerance: 30ppm; Frequency: 24MHz; Load Capacitance: 6pF; Frequency Stability: 40ppm; Length: 2mm; Height: 0.028inch; Lead Free: Lead Free; Min Operating Temperature: -30°C; REACH SVHC: No SVHC; RoHS Compliant: Yes; Series Resistance: 150R; Mount: Surface Mount; Packaging: Tape and Reel; Termination: SMD/SMT; Case/Package: SMD/SMT; Max Operating Temperature: 85°C; Width: 1.6mm; Number of Pins: 4; Package Quantity: 1; Depth: 1.6mm; Frequency Tolerance: 30ppm; Series: XRCGB
footprint FP-XRCGB_F_N-MFG
pins: 1 1 Input/Output, 2 NC, 3 2 Input/Output, 4 NC

## CMP-12801-000001-1
designator Q?, comment AO3400A
C20917; Manufacturer Part Number: DMG2302UK-7; Manufacturer: Diodes Inc.; Reverse Recovery Time: 5.3ns; Gate Charge At Vgs: 2.8nC @ 10V; Drain To Source Voltage: 20V; Turn On Delay Time: 0.6ns; Pulse Drain Current: 12A; Max Forward Diode Voltage: 1.2V; Reverse Recovery Charge: 0.5nC; Automotive Grade: Grade 0; Threshold Vgs Min: 0.3V; Number Of N Channels: 1; Standoff Height: 0.013mm; Typ Forward Diode Voltage: 0.7V; Continuous Drain Current: 2.8A; Drain To Source Resistance: 61mΩ; Rthja Max: 192°C/W; Max Junction Temp: +150°C; Input Capacitace At Vds: 130pF @ 10V; Threshold Vgs Max: 1V; Turn Off Delay Time: 4.2ns; Depletion Mode: False; Gate To Source Voltage: 12V; Power Dissipation: 0.66W; Device Class L1: Discrete Semiconductors; Footprint Url: https://www.diodes.com/assets/Package-Files/SOT23.pdf; Lead Free: Yes; Temperature Range High: +150°C; Category: Trans; Digikey Description: MOSFET N-CH 20V 2.8A SOT23; RoHS: TRUE; Device Class L2: Transistors; Height: 1.1mm; Automotive: Yes; Package: SOT23; Drain To Source Breakdown Voltage: 20V; ComponentLink2Description: Datasheet; Device Class L3: MOSFETs; Octopart: https://octopart.com/dmg2302uk-7-diodes+inc.-73850182; Temperature Range Low: -55°C; Temperature: -55°C to +150°C; Number Of Channels: 1; ComponentLink2URL: https://www.diodes.com/assets/Datasheets/DMG2302UK.pdf
footprint FP-SOT23-MFG
footprint FP-SOT23-IPC_B
pins: 1 G, 2 S, 3 D

## CMP-12801-000081-1
designator Q?, comment AO3401A
C15127; Continuous Drain Current (ID): 2.4A; Rds On Max: 160mR; Input Capacitance: 156pF; Drain to Source Voltage (Vdss): 20V; Max Power Dissipation: 840mW; Max Operating Temperature: 150°C; Packaging: Tape and Reel; Case/Package: TO-236-3; Min Operating Temperature: -55°C; Mount: Surface Mount
footprint FP-SOT23-IPC_B
footprint FP-SOT23-MFG
pins: 1 G, 2 S, 3 D

## CMP-14436-000003-1
designator D?, comment PRTR5V0U2F,115
C478118; Manufacturer: Nexperia; Capacitance: 1pF; Reverse Standoff Voltage: 5.5V; Number Of Channels: 2; Automotive Grade: Grade 3; Direction: Unidirectional; Value: 1pF; Breakdown Voltage: 6V; Octopart: https://octopart.com/prtr5v0u2f%2C115-nexperia-78741690; Height: 0.5mm; Category: Diode; RoHS: TRUE; Automotive: Yes; Digikey Description: TVS DIODE 5.5V 6XSON SOT886; Device Class L1: Circuit Protection; Ambient Temperature Range High: +85°C; ComponentLink2Description: Datasheet; Manufacturer Part Number: PRTR5V0U2F,115; Device Class L3: unset; Footprint Url: https://assets.nexperia.com/documents/outline-drawing/SOT886.pdf; Lead Free: Yes; Ambient Temperature Range Low: -40°C; Device Class L2: TVS Diodes; Package: SOT886; ComponentLink2URL: https://assets.nexperia.com/documents/data-sheet/PRTR5V0U2F_PRTR5V0U2K.pdf
footprint FP-SOT886-MFG
pins: 1 I/O1, 2 GND (power), 3 I/O2, 4 I/O2, 5 VCC (power), 6 I/O1

## CMP-57192-000012-1
designator D?, comment KT-0603R
C2286; Luminous Intensity: 14mcd; Test Current: 20mA; Color: Red; Viewing Angle: 160°; Approvals: UL; Lens Style: Diffused; Forward Voltage: 2V; Power Dissipation: 50mW; Dominant Wavelength: 635nm; Number of LEDs: 1; Lens Color: White; Height: 0.6mm; RoHS Compliant: Yes; Lead Free: Lead Free; Number of Pins: 2; Packaging: Tape and Reel; Case/Package: 0603; Length: 1.6mm; Max Operating Temperature: 85°C; Illumination Color: Red; Case Code (Metric): 1608; Diameter: 0.061inch; Min Operating Temperature: -25°C; Mount: Surface Mount; Width: 0.8mm; Case Code (Imperial): 0603; Lens Transparency: Diffused; Wavelength: 635nm; Package Quantity: 1; Forward Current: 20mA
footprint FP-SML-LX0603IW-TR-MFG
pins: 1 C, 2 A

## CON2P
designator JB?, comment Connector 2PIn
footprint CON_2P
pins: 1, 2

## CON6P
designator PR?
footprint CON6P (Footprint not found)
pins: 1, 2, 3, 4, 5, 6

## dsk24_c64890
designator D?, comment DSK24
C22466352; Manufacturer: MDD(辰达半导体); Symbol: DSK24 K24; AddInBom: yes; ModelId: 560a7cf99d0e44cb9af362aaf5d7923d; ModelName: SOD-123_L2.8-W1.8-LS3.7-RD; ModelTransform: 144.8816,62.992,0,0,0,0,0,0,0; Diode Configuration: Independent; Voltage - Forward(Vf@If): 550mV@2A; Voltage - DC Reverse(Vr): 40V; Current - Rectified: 2A; Reverse Leakage Current (Ir): 500uA@40V; Operating Junction Temperature Range: -55℃~+150℃; LCSC Part Name: 电压:40V 电流:2A; SupplierPart: C64890; ManufacturerPart: DSK24; Supplier Footprint: SOD-123FL; JLCPCB Part Class: Extended Part; Datasheet: https://item.szlcsc.com/datasheet/DSK24/65960.html; Supplier: LCSC; ConvertToPcb: yes; FootprintName: SOD-123_L2.8-W1.8-LS3.7-RD
footprint DSK24 (Footprint not found)
pins: 1 K, 2 A

## jnj-ltji0112w120/35mil/845-860nm
designator LED?  (value not drawn)
C19185834; Manufacturer: JNJOPTO(强生光电); AddInBom: yes; ModelId: ae706680f6654db0b87a2ee284df6a85; ModelName: LED-SMD_3P-L3.5-W3.5_JNJ-LTJID0114T140; ModelTransform: 137.795,138.1887,0,0,0,0,0,0,0; Voltage - Forward(Vf): 1.4V~2.1V；1.5V~2.3V; Wavelength: 850nm; Radiant Intensity: 75mW/sr@IF=350mA；140mW/sr@IF=1000mA; Current - DC Forward(If): 1A; Voltage - DC Reverse(Vr): 5V; Viewing Angle: 120°; Half wave width: 50nm; Symbol: JNJ-LTJI0112W120/35MIL/845-860NM; LCSC Part Name: 3535白色陶瓷晶元35mil球头120度灯源845-860nm; SupplierPart: C19185834; ManufacturerPart: JNJ-LTJI0112W120/35mil/845-860nm; Supplier Footprint: SMD3535-3P; JLCPCB Part Class: Extended Part; Datasheet: https://item.szlcsc.com/datasheet/JNJ-LTJI0112W120%252F35mil%252F845-860nm/20403639.html; Supplier: LCSC; ConvertToPcb: yes; FootprintName: LED-SMD_3P-L3.5-W3.5_JNJ-LTJID0114T140; Pd - Power Dissipation: -; Operating Temperature: -40℃~+100℃
footprint JNJ-LTJI0112W120
pins: 1, 2, 3

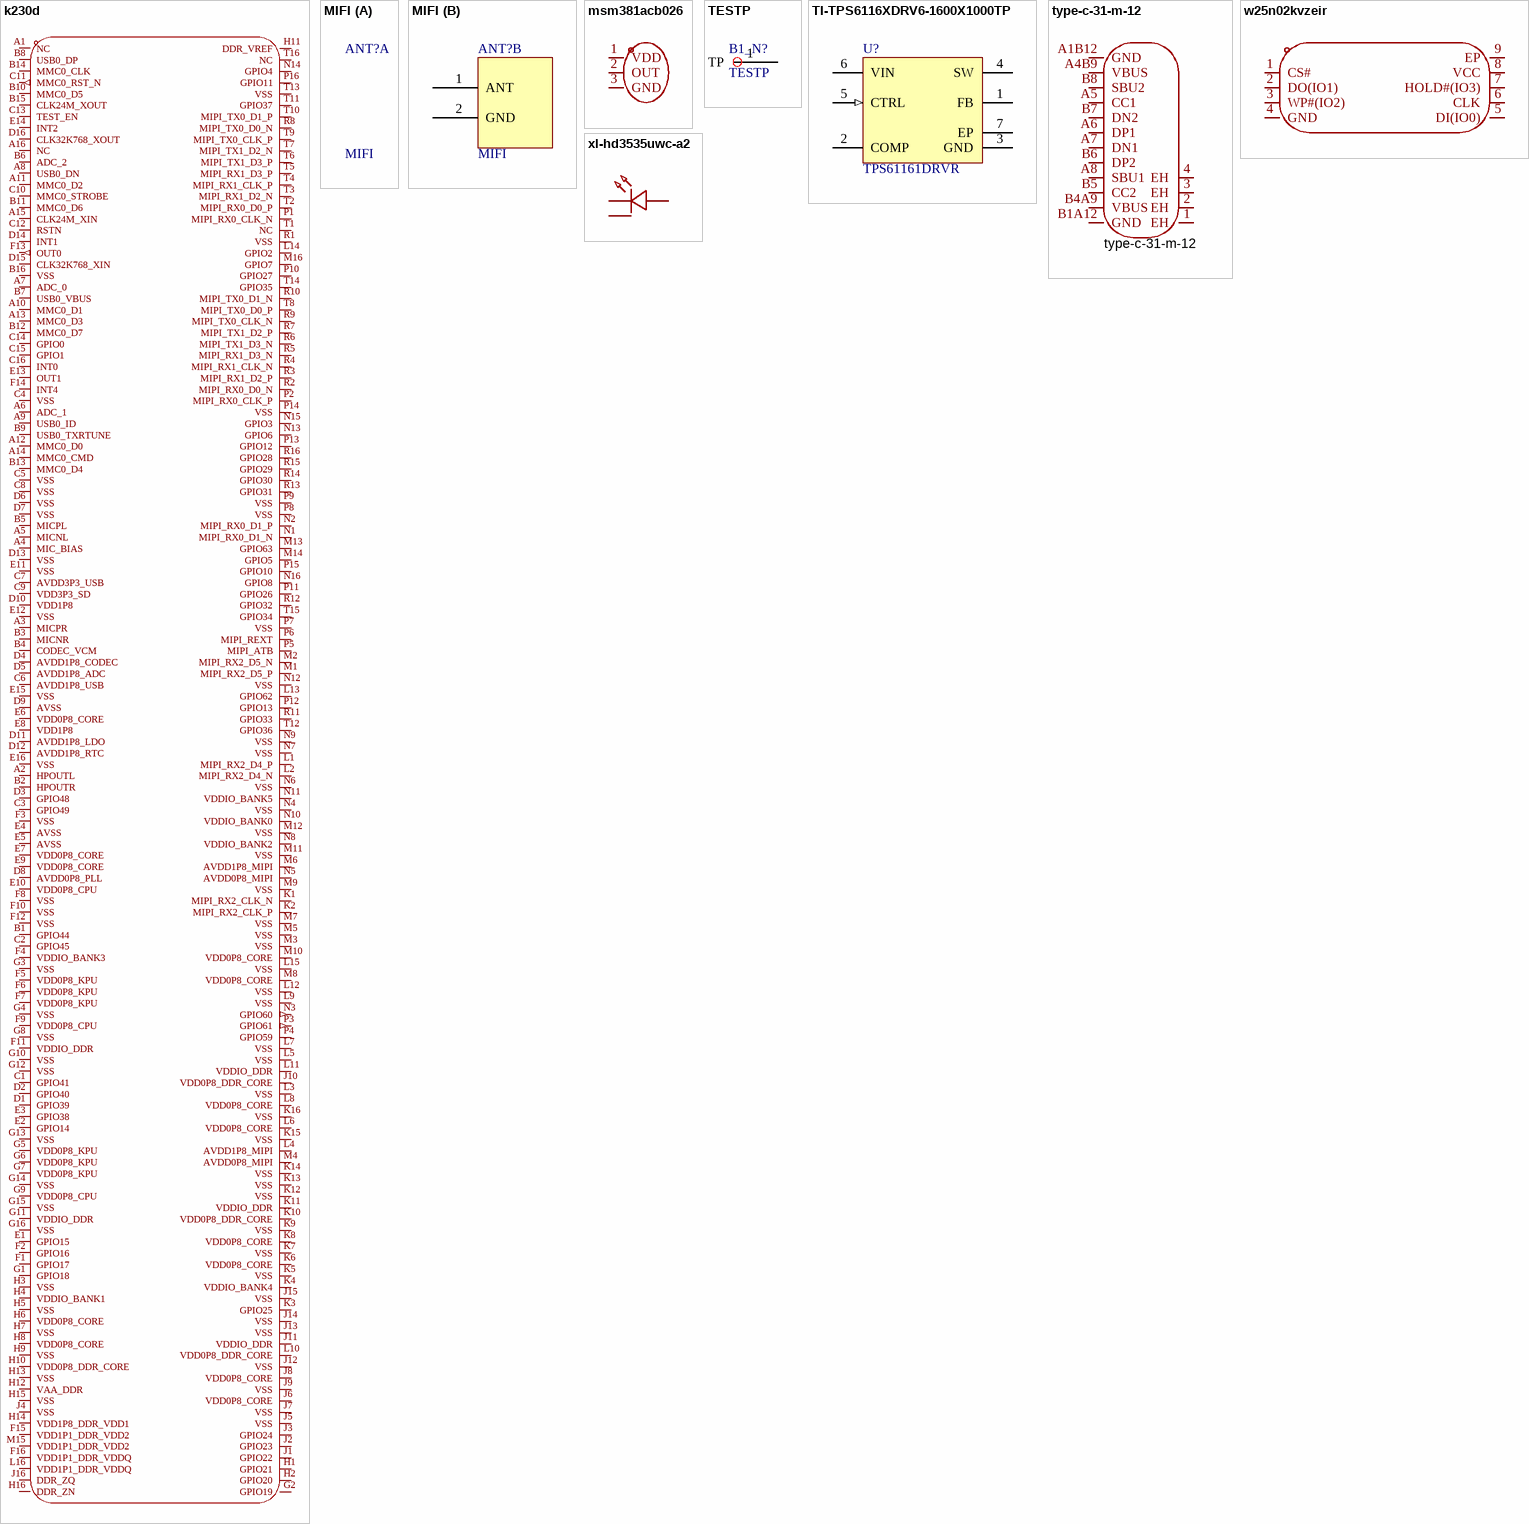
[diagram p2: symbols k230d to xl-hd3535uwc-a2]

## k230d
designator U?  (value not drawn)
C42414902; Manufacturer: Canaan(嘉楠); AddInBom: yes; ModelId: 5e2811f3a7254058be5ff42f0a018083; ModelName: BGA-256_L11.0-W11.0-P0.65-BL; ModelTransform: 433.07,433.07,0,90,0,0,0,0,0; Symbol: K230D; LCSC Part Name: K230平台及其特性; SupplierPart: C42414902; ManufacturerPart: K230D; Supplier Footprint: BGA-256; JLCPCB Part Class: Extended Part; Datasheet: https://item.szlcsc.com/datasheet/K230D/44408979.html; Supplier: LCSC; ConvertToPcb: yes; FootprintName: BGA-256_L11.0-W11.0-P0.65-BL; Features: Calendar function；Power-on reset (POR)；True random number generator (TRNG)；Watchdog reset；Built-in general-purpose timer；Hardware CRC；Software reset
footprint K230D
pins: A1 NC, A2 HPOUTL, A3 MICPR, A4 MIC_BIAS, A5 MICNL, A6 ADC_1, A7 ADC_0, A8 USB0_DN, A9 USB0_ID, A10 MMC0_D1, A11 MMC0_D2, A12 MMC0_D0, A13 MMC0_D3, A14 MMC0_CMD, A15 CLK24M_XIN, A16 NC, B1 GPIO44, B2 HPOUTR, B3 MICNR, B4 CODEC_VCM, B5 MICPL, B6 ADC_2, B7 USB0_VBUS, B8 USB0_DP, B9 USB0_TXRTUNE, B10 MMC0_D5, B11 MMC0_D6, B12 MMC0_D7, B13 MMC0_D4, B14 MMC0_CLK, B15 CLK24M_XOUT, B16 VSS, C1 GPIO41, C2 GPIO45, C3 GPIO49, C4 VSS, C5 VSS, C6 AVDD1P8_USB, C7 AVDD3P3_USB, C8 VSS, C9 VDD3P3_SD, C10 MMC0_STROBE, C11 MMC0_RST_N (out), C12 RSTN, C13 TEST_EN, C14 GPIO0, C15 GPIO1, C16 INT0, D1 GPIO39, D2 GPIO40, D3 GPIO48, D4 AVDD1P8_CODEC, D5 AVDD1P8_ADC, D6 VSS, D7 VSS, D8 AVDD0P8_PLL, D9 AVSS, D10 VDD1P8, D11 AVDD1P8_LDO, D12 AVDD1P8_RTC, D13 VSS, D14 INT1, D15 CLK32K768_XIN, D16 CLK32K768_XOUT, E1 GPIO15, E2 GPIO14, E3 GPIO38, E4 AVSS, E5 AVSS, E6 VDD0P8_CORE, E7 VDD0P8_CORE, E8 VDD1P8, E9 VDD0P8_CORE, E10 VDD0P8_CPU, E11 VSS, E12 VSS, E13 OUT1, E14 INT2, E15 VSS, E16 VSS, F1 GPIO17, F2 GPIO16, F3 VSS, F4 VDDIO_BANK3, F5 VDD0P8_KPU, F6 VDD0P8_KPU, F7 VDD0P8_KPU, F8 VSS, F9 VDD0P8_CPU, F10 VSS, F11 VDDIO_DDR, F12 VSS, F13 OUT0 (out), F14 INT4, F15 VDD1P1_DDR_VDD2, F16 VDD1P1_DDR_VDDQ, G1 GPIO18, G2 GPIO19, G3 VSS, G4 VSS, G5 VDD0P8_KPU, G6 VDD0P8_KPU, G7 VDD0P8_KPU, G8 VSS, G9 VDD0P8_CPU, G10 VSS, G11 VDDIO_DDR, G12 VSS, G13 VSS, G14 VSS, G15 VSS, G16 VSS, H1 GPIO21, H2 GPIO20, H3 VSS, H4 VDDIO_BANK1, H5 VSS, H6 VDD0P8_CORE, H7 VSS, H8 VDD0P8_CORE, H9 VSS, H10 VDD0P8_DDR_CORE, H11 DDR_VREF, H12 VAA_DDR, H13 VSS, H14 VDD1P8_DDR_VDD1, H15 VSS, H16 DDR_ZN, J1 GPIO22, J2 GPIO23, J3 GPIO24, J4 VSS, J5 VSS, J6 VDD0P8_CORE, J7 VSS, J8 VDD0P8_CORE, J9 VSS, J10 VDD0P8_DDR_CORE, J11 VDDIO_DDR, J12 VSS, J13 VSS, J14 VSS, J15 VSS, J16 DDR_ZQ, K1 MIPI_RX2_CLK_N, K2 MIPI_RX2_CLK_P, K3 GPIO25, K4 VDDIO_BANK4, K5 VSS, K6 VDD0P8_CORE, K7 VSS, K8 VDD0P8_CORE, K9 VSS, K10 VDD0P8_DDR_CORE, K11 VDDIO_DDR, K12 VSS, K13 VSS, K14 VSS, K15 VSS, K16 VSS, L1 MIPI_RX2_D4_P, L2 MIPI_RX2_D4_N, L3 VSS, L4 AVDD1P8_MIPI, L5 VSS, L6 VDD0P8_CORE, L7 VSS, L8 VDD0P8_CORE, L9 VSS, L10 VDD0P8_DDR_CORE, L11 VDDIO_DDR, L12 VSS, L13 GPIO62, L14 GPIO2, L15 VSS, L16 VDD1P1_DDR_VDDQ, M1 MIPI_RX2_D5_P, M2 MIPI_RX2_D5_N, M3 VSS, M4 AVDD0P8_MIPI, M5 VSS, M6 AVDD1P8_MIPI, M7 VSS, M8 VDD0P8_CORE, M9 VSS, M10 VDD0P8_CORE, M11 VSS, M12 VSS, M13 GPIO63, M14 GPIO5, M15 VDD1P1_DDR_VDD2, M16 GPIO7, N1 MIPI_RX0_D1_N, N2 MIPI_RX0_D1_P, N3 GPIO60 (out), N4 VSS, N5 AVDD0P8_MIPI, N6 VSS, N7 VSS, N8 VDDIO_BANK2, N9 VSS, N10 VDDIO_BANK0, N11 VDDIO_BANK5, N12 VSS, N13 GPIO6, N14 GPIO4, N15 GPIO3, N16 GPIO8, P1 MIPI_RX0_CLK_N, P2 MIPI_RX0_CLK_P, P3 GPIO61 (out), P4 GPIO59, P5 MIPI_ATB, P6 MIPI_REXT, P7 VSS, P8 VSS, P9 VSS, P10 GPIO27, P11 GPIO26, P12 GPIO13, P13 GPIO12, P14 VSS, P15 GPIO10, P16 GPIO11, R1 VSS, R2 MIPI_RX0_D0_N, R3 MIPI_RX1_D2_P, R4 MIPI_RX1_CLK_N, R5 MIPI_RX1_D3_N, R6 MIPI_TX1_D3_N, R7 MIPI_TX1_D2_P, R8 MIPI_TX0_D0_N, R9 MIPI_TX0_CLK_N, R10 MIPI_TX0_D1_N, R11 GPIO33, R12 GPIO32, R13 GPIO31, R14 GPIO30, R15 GPIO29, R16 GPIO28, T1 NC, T2 MIPI_RX0_D0_P, T3 MIPI_RX1_D2_N, T4 MIPI_RX1_CLK_P, T5 MIPI_RX1_D3_P, T6 MIPI_TX1_D3_P, T7 MIPI_TX1_D2_N, T8 MIPI_TX0_D0_P, T9 MIPI_TX0_CLK_P, T10 MIPI_TX0_D1_P, T11 GPIO37, T12 GPIO36, T13 VSS, T14 GPIO35, T15 GPIO34, T16 NC

## MIFI
designator ANT?  (net tie, no BOM)
footprint IFA_MAGUS
part B pins: 1 ANT, 2 GND

## msm381acb026
designator U?  (value not drawn)
C51928208; Manufacturer: MEMS(敏芯微); AddInBom: yes; Direction: Omnidirectional; Voltage - Supply: 3.6V; Current Consumption: 175uA; S/N Ratio: 64dB; Sensitivity: -38dB; Impedance: 170Ω; Output Type: Analog output; Symbol: MSM381ACB026; LCSC Part Name: 3.6V -38dB; SupplierPart: C51928208; ManufacturerPart: MSM381ACB026; Supplier Footprint: LGA-3(1.9x2.8); JLCPCB Part Class: Extended Part; Datasheet: https://item.szlcsc.com/datasheet/MSM381ACB026/54640763.html; Supplier: LCSC; ConvertToPcb: yes; FootprintName: MIC-SMD_L2.8-W1.9_MSM381ACB026; Length: 2.75mm; Width: 1.85mm; Height: 0.9mm; Features: Omnidirectional pickup
footprint mems
pins: 1 VDD, 2 OUT, 3 GND

## TESTP
designator B1_N?
footprint TESTP
pins: 1 TP

## TI-TPS6116XDRV6-1600X1000TP
designator U?, comment TPS61161DRVR
C324075; Manufacturer: Texas Instruments; Dimming: TRUE; Vin(Max)(V): 18; Vin(Min)(V): 2.7; SubFamily: White LED Driver; Iq(Typ)(mA): 1.5; Switching Frequency(Max)(kHz): 600; Topology: Boost; Rating: Catalog; Eco-Plan: Green (RoHS & no Sb/Br); ComponentLink2Description: Datasheet; Mounting Technology: Surface Mount; DatasheetVersion: SLVS937A; PackageReference: DRV0006A; PartNumber: TPS61161DRVR; ComponentLink2URL: http://www.ti.com/general/docs/lit/getliterature.tsp?genericPartNumber=TPS61160A&fileType=pdf; ComponentLink1URL: http://www.ti.com/; ComponentLink3Description: Package Specification; Synchronous Rectification: TRUE; PackageDescription: 6-Pin Plastic Small Outline No-Lead, Body 2 x 2 mm, Pitch 0.65 mm; ComponentLink3URL: http://www.ti.com/litv/pdf/mpds216d; ComponentLink1Description: Manufacturer URL; PackageVersion: 4206925/E
footprint TPS61160ADRVT
pins: 1 FB "Feedback pin for current. Connect the sense resistor from FB to GND.", 2 COMP "Output of the transconductance error amplifier. Connect an external capacitor to this pin to compensate the regulator.", 3 GND (power) "Ground", 4 SW (power) "This is the switching node of the IC. Connect the inductor between the VIN and SW pin. This pin is also used to sense the output voltage for open LED protection", 5 CTRL (in) "Control pin of the boost regulator. Enable and disable IC. PWM signal can be applied to the pin for LED brightness dimming as well.", 6 VIN (power) "The input supply pin for the IC. Connect VIN to a supply voltage between 2.7V and 18V.", 7 EP (power) "The thermal pad should be soldered to the analog ground plane. If possible, use thermal via to connect to ground plane for ideal power dissipation."

## type-c-31-m-12
designator USBC?
C165948; Manufacturer: 韩国韩荣; AddInBom: yes; ModelId: 8421221a464047838322348b3a9debc3; ModelName: USB-C_SMD-TYPE-C-31-M-12_1; ModelTransform: 351.9678,311.023,0,180,0,0,0,-43.307,-33.465; Connector Type: Type-C; Gender: Female; Number of Contacts: 16P; Number of Ports: 1; Current Rating-Power: 5A; Voltage Rating: 20V; Connect-Disconnect Life: 10,000 cycles; Symbol: TYPE-C-31-M-12; LCSC Part Name: Type-C 母 卧贴; SupplierPart: C165948; ManufacturerPart: TYPE-C-31-M-12; Supplier Footprint: SMD; JLCPCB Part Class: Extended Part; Datasheet: https://item.szlcsc.com/datasheet/TYPE-C-31-M-12/177331.html; Supplier: LCSC; ConvertToPcb: yes; FootprintName: USB-C_SMD-TYPE-C-31-M-12_1; Protocol Standard: -; Mounting Type: Surface Mount, Right Angle; Length: 7.35mm; Operating Temperature: -30℃~+80℃
footprint TYPE-C-31-M-12
pins: 1 EH, 2 EH, 3 EH, 4 EH, A1B12 GND, A4B9 VBUS, A5 CC1, A6 DP1, A7 DN1, A8 SBU1, B1A12 GND, B4A9 VBUS, B5 CC2, B6 DP2, B7 DN2, B8 SBU2

## w25n02kvzeir
designator U?  (value not drawn)
C17626844; Manufacturer: Winbond(华邦); AddInBom: yes; ModelId: 9e5cc5bccb2d4d2ba04b587249e4c285; ModelName: WSON-8_L8.0-W6.0-P1.27-TL-EP-1; ModelTransform: 314.96,236.22,0,0,0,0,0,0,0; Memory Size: 2Gbit; Interface: SPI; Clock Frequency: 104MHz; Voltage - Supply: 2.7V~3.6V; Page Program time (TPP): 700us; Block Erase Time(tBE): 2ms; Data Retention - TDR (Year): 10 Years; Standby Supply Current: 10uA; Program / Erase Cycles: 60,000 Cycles; Symbol: W25N02KVZEIR; LCSC Part Name: 支持双路/四路SPI、缓冲读取和顺序读取的SPI NAND闪存; SupplierPart: C3010298; ManufacturerPart: W25N02KVZEIR; Supplier Footprint: WSON-8-EP(6x8); JLCPCB Part Class: Extended Part; Datasheet: https://item.szlcsc.com/datasheet/W25N02KVZEIR/3508597.html; Supplier: LCSC; ConvertToPcb: yes; FootprintName: WSON-8_L8.0-W6.0-P1.27-TL-EP-1; Write Cycle Time(tWC): -; Operating Temperature: -40℃~+85℃
footprint w25n02
pins: 1 CS#, 2 DO(IO1), 3 WP#(IO2), 4 GND, 5 DI(IO0), 6 CLK, 7 HOLD#(IO3), 8 VCC, 9 EP

## xl-hd3535uwc-a2
designator LED?  (value not drawn)
C3646951; Manufacturer: XINGLIGHT(成兴光); AddInBom: yes; ModelId: 24cabb2563c34a16901b89b669d22d94; ModelName: LED-SMD_3P-L3.5-W3.5_XL-HD3535UWC-A2-3; ModelTransform: 135.827,135.86587,0,0,0,0,0,0,0; Lamp Holder Type: 3.5mm x 3.5mm square LED; Illumination Color: White; Voltage - Forward(Vf): 2.8V~3.6V; Power(Watts): 1W; Forward Current: 350mA; Diode Configuration: Discrete Diode; Lens Color: Water Clear; Color Temperature: 5500K~7000K; Viewing Angle: 130°; Symbol: XL-HD3535UWC-A2; LCSC Part Name: 3535球头白1W贴片式发光二极管; SupplierPart: C3646951; ManufacturerPart: XL-HD3535UWC-A2; Supplier Footprint: SMD3535-3P; JLCPCB Part Class: Extended Part; Datasheet: https://item.szlcsc.com/datasheet/XL-HD3535UWC-A2/4213794.html; Supplier: LCSC; ConvertToPcb: yes; FootprintName: LED-SMD_3P-L3.5-W3.5_XL-HD3535UWC-A2-3; Wavelength - Dominant: -; Peak Wavelength: -; Luminous Intensity: -; Mounting Style: Top-mount; Operating Temperature: -40℃~+85℃
footprint XL-HD3535UWC-A2 (Footprint not found)
pins: 1, 2, 3